# EAGLE library part BACKPLANE_CONTROLLER_MODULE_DEBUG (library signpost)
Control module for signpost, with debug headers
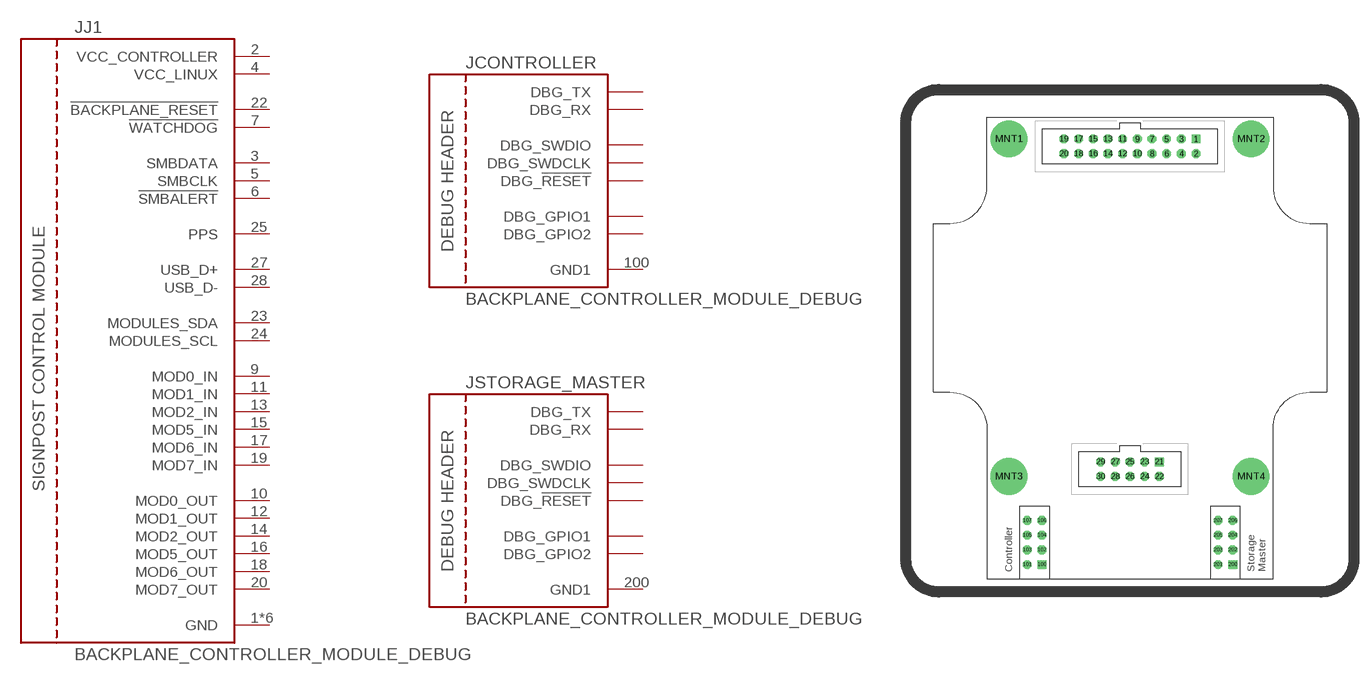
[diagram p27: symbol with the pads of BACKPLANE_MODULE_20PIN_10PIN_DEBUG; footprint BACKPLANE_MODULE_20PIN_10PIN_DEBUG]

Designator prefix J; gates J1=HEADER_CONTROL CONTROLLER=HEADER_DEBUG STORAGE_MASTER=HEADER_DEBUG

## BACKPLANE_CONTROLLER_MODULE_DEBUG (DIGIKEY: S9197-ND; DIGIKEY2: S9194-ND; DIGIKEY3: S7072-ND; DIGIKEY4: S7072-ND)  [BACKPLANE_MODULE_20PIN_10PIN_DEBUG]
1  J1:GND
2  J1:VCC_CONTROLLER
3  J1:SMBDATA
4  J1:VCC_LINUX
5  J1:SMBCLK
6  J1:!SMBALERT
7  J1:!WATCHDOG
9  J1:MOD0_IN
10  J1:MOD0_OUT
11  J1:MOD1_IN
12  J1:MOD1_OUT
13  J1:MOD2_IN
14  J1:MOD2_OUT
15  J1:MOD5_IN
16  J1:MOD5_OUT
17  J1:MOD6_IN
18  J1:MOD6_OUT
19  J1:MOD7_IN
20  J1:MOD7_OUT
21  J1:GND
22  J1:!BACKPLANE_RESET
23  J1:MODULES_SDA
24  J1:MODULES_SCL
25  J1:PPS
27  J1:USB_D+
28  J1:USB_D-
100  CONTROLLER:GND1
101  CONTROLLER:DBG_GPIO1
102  CONTROLLER:DBG_TX
103  CONTROLLER:DBG_RX
104  CONTROLLER:DBG_GPIO2
105  CONTROLLER:DBG_!RESET
106  CONTROLLER:DBG_SWDCLK
107  CONTROLLER:DBG_SWDIO
200  STORAGE_MASTER:GND1
201  STORAGE_MASTER:DBG_GPIO1
202  STORAGE_MASTER:DBG_TX
203  STORAGE_MASTER:DBG_RX
204  STORAGE_MASTER:DBG_GPIO2
205  STORAGE_MASTER:DBG_!RESET
206  STORAGE_MASTER:DBG_SWDCLK
207  STORAGE_MASTER:DBG_SWDIO
MNT1  J1:GND
MNT2  J1:GND
MNT3  J1:GND
MNT4  J1:GND

## Footprint BACKPLANE_MODULE_20PIN_10PIN_DEBUG (pad centres in mm)
drill 1.016 square: 1 11.43,29.21; 21 5.08,-26.67; 100 -15.24,-44.45; 200 17.78,-44.45
drill 1.016 octagon: 2 11.43,26.67; 3 8.89,29.21; 4 8.89,26.67; 5 6.35,29.21; 6 6.35,26.67; 7 3.81,29.21; 8 3.81,26.67; 9 1.27,29.21; 10 1.27,26.67; 11 -1.27,29.21; 12 -1.27,26.67; 13 -3.81,29.21; 14 -3.81,26.67; 15 -6.35,29.21; 16 -6.35,26.67; 17 -8.89,29.21; 18 -8.89,26.67; 19 -11.43,29.21; 20 -11.43,26.67; 22 5.08,-29.21; 23 2.54,-26.67; 24 2.54,-29.21; 25 0,-26.67; 26 0,-29.21; 27 -2.54,-26.67; 28 -2.54,-29.21; 29 -5.08,-26.67; 30 -5.08,-29.21; 101 -17.78,-44.45; 102 -15.24,-41.91; 103 -17.78,-41.91; 104 -15.24,-39.37; 105 -17.78,-39.37; 106 -15.24,-36.83; 107 -17.78,-36.83; 201 15.24,-44.45; 202 17.78,-41.91; 203 15.24,-41.91; 204 17.78,-39.37; 205 15.24,-39.37; 206 17.78,-36.83; 207 15.24,-36.83
drill 2.946 pad 6.35: MNT1 -20.955,29.21; MNT2 20.955,29.21; MNT3 -20.955,-29.21; MNT4 20.955,-29.21